# Altium footprint library UVICHyrbidLibrary (1).PcbLib: 116 footprints (part 3 of 8)
Each footprint in its own frame and in the unit in brackets; x right, y up, seen from the top. Pads: shape width x height; smd on the part's side, far side on the other; paste and mask are expansions set on the pad; w line width, h text height; cw(c..) or ccw(c..) is an arc to the next point about the centre after c.
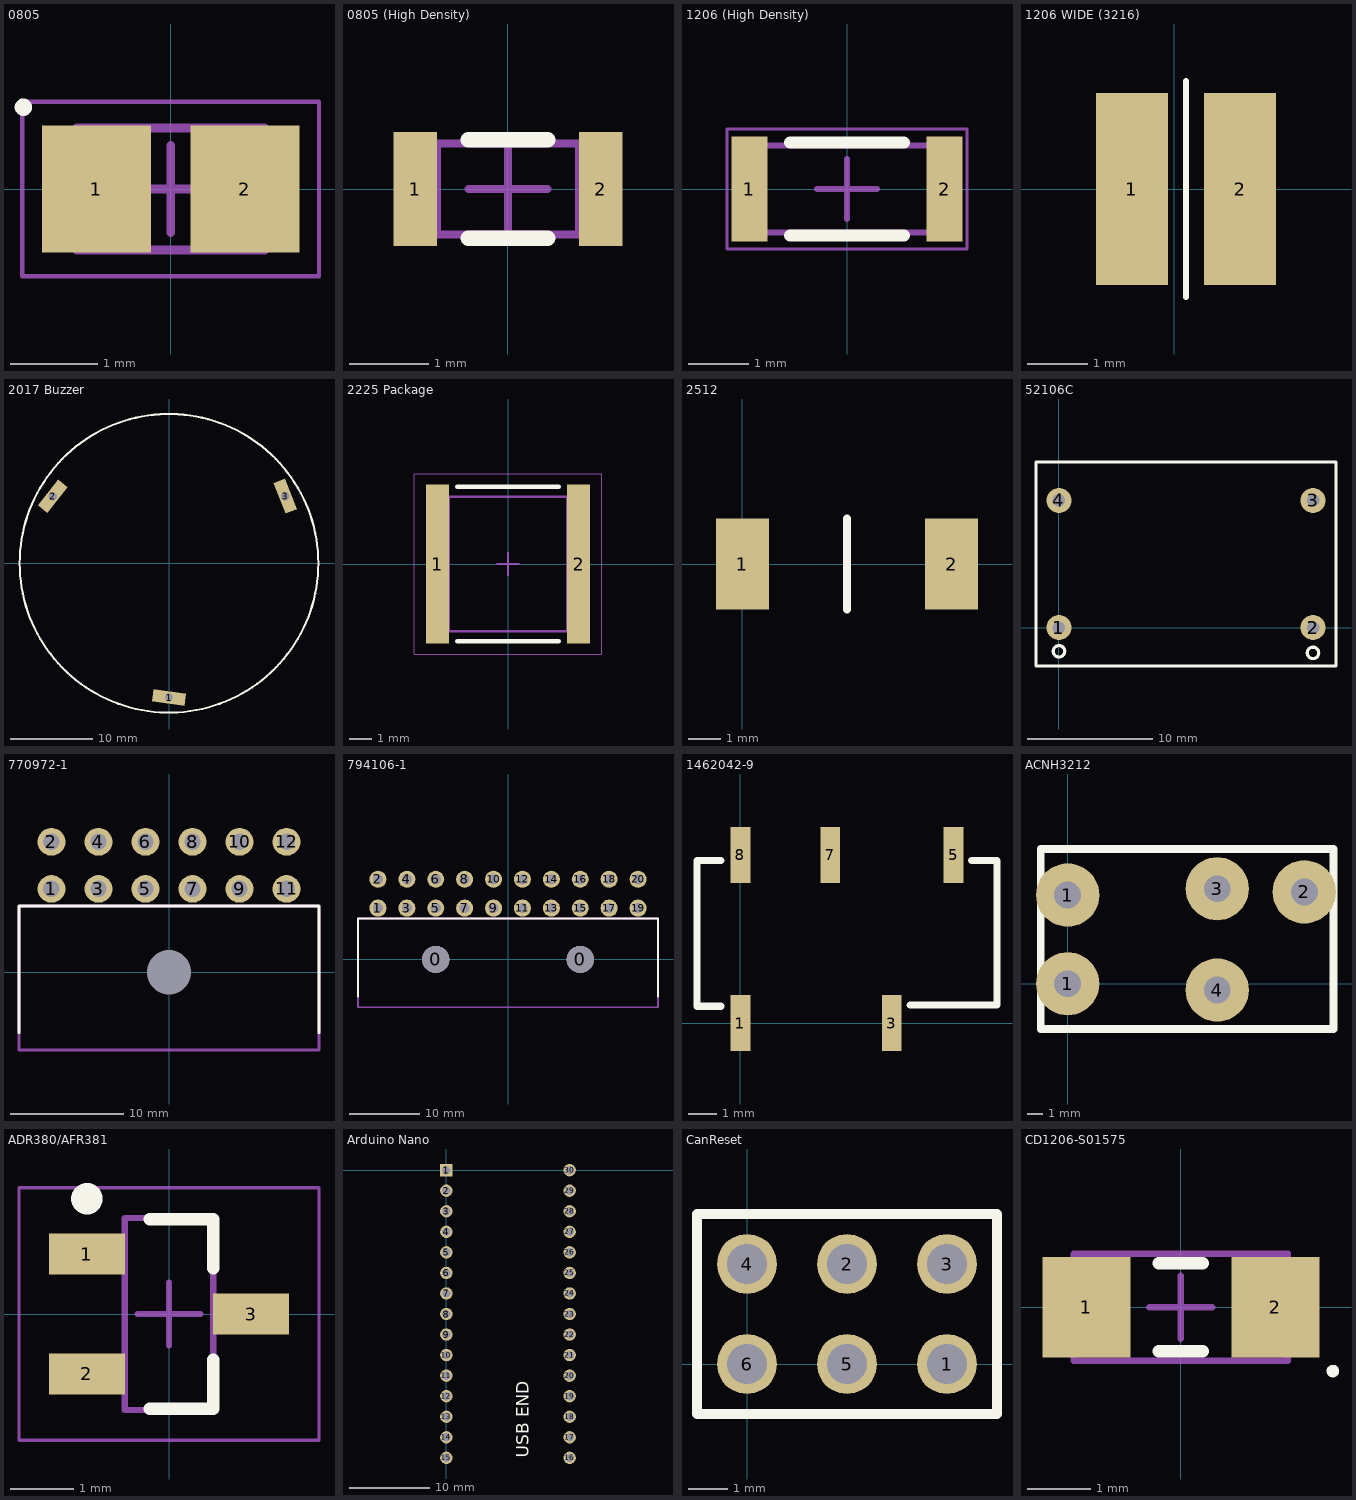
[diagram p2: the footprints below, top view; thin cyan lines are the x and y axes]

## 0805 [mm] "Chip Capacitor, 2-Leads, Body 2.00x1.25mm, IPC Medium Density"
height 1.4
pads (2):
  rect 1.25x1.45 smd: 1(-0.85,0) 2(0.85,0)
Top Overlay:
  circle w0.1: c-1.687,0.937 r0.05
Mechanical 13:
  lines w0.1: -1.075,-0.7 -1.075,0.7 1.075,0.7 1.075,-0.7 -1.075,-0.7
Mechanical 15:
  lines w0.05: -1.7,-1 -1.7,1 1.7,1 1.7,-1 -1.7,-1
  lines w0.1: -0.5,0 0.5,0 ; 0,-0.5 0,0.5
3D body: height 1.4, standoff 0, extent -0.625,-0.7 0.625,0.7
3D body: height 1.4, standoff 0, extent -1.075,-0.7 -0.625,0.7
3D body: height 1.4, standoff 0, extent 0.625,-0.7 1.075,0.7

## 0805 (High Density) [mm] "Panasonic 0805 Resistor"
height 0.7
pads (2):
  rect 0.55x1.45 smd: 1(-1.175,0) 2(1.175,0)
Top Overlay:
  lines w0.2: -0.5,-0.625 0.5,-0.625 ; -0.5,0.625 0.5,0.625
Mechanical 13:
  lines w0.1: -0.9,-0.575 -0.9,0.575 0.9,0.575 0.9,-0.575 -0.9,-0.575
Mechanical 15:
  lines w0.1: -0.5,0 0.5,0 ; 0,-0.5 0,0.5
3D body: height 0.7, standoff 0, extent -0.5,-0.575 0.5,0.575
3D body: height 0.7, standoff 0, extent -0.9,-0.575 -0.5,0.575
3D body: height 0.7, standoff 0, extent 0.5,-0.575 0.9,0.575

## 1206 (High Density) [mm] "Panasonic 1206 Resistor"
height 0.7
pads (2):
  rect 0.6x1.75 smd: 1(-1.625,0) 2(1.625,0)
Top Overlay:
  lines w0.2: -0.95,-0.775 0.95,-0.775 ; -0.95,0.775 0.95,0.775
Mechanical 13:
  lines w0.1: -1.5,-0.725 1.5,-0.725 1.5,0.725 -1.5,0.725 -1.5,-0.725
Mechanical 15:
  lines w0.05: -2,-1 2,-1 2,1 -2,1 -2,-1
  lines w0.1: -0.5,0 0.5,0 ; 0,-0.5 0,0.5
3D body: height 0.7, standoff 0, extent 1,-0.725 1.5,0.725
3D body: height 0.7, standoff 0, extent -1.5,-0.725 -1,0.725
3D body: height 0.7, standoff 0, extent -1,-0.725 1,0.725

## 1206 WIDE (3216) [mm]
pads (2):
  rect 1.2x3.2 smd: 1(-0.7,0) 2(1.1,0)
Top Overlay:
  lines w0.1: 0.2,-1.8 0.2,1.8

## 2017 Buzzer [mm]
pads (3):
  rect 4x1.5 hole 1 square rot 172: 1(0,-16.275)
  rect 4x1.5 hole 1 square rot 52: 2(-14.095,8.137)
  rect 4x1.5 hole 1 square rot 112: 3(14.095,8.137)
Top Overlay:
  circle w0.254: c0,0 r18.105

## 2225 Package [mm]
height 2.18
pads (2):
  rect 1.05x7.2 smd: 1(-3.2,0) 2(3.2,0)
Top Overlay:
  lines w0.2: -2.3,-3.5 2.3,-3.5 ; -2.3,3.5 2.3,3.5
Mechanical 13:
  lines w0.1: -2.67,-3.05 -2.67,3.05 2.67,3.05 2.67,-3.05 -2.67,-3.05
Mechanical 15:
  lines w0.05: -4.25,-4.1 -4.25,4.1 4.25,4.1 4.25,-4.1 -4.25,-4.1
  lines w0.1: -0.5,0 0.5,0 ; 0,-0.5 0,0.5
3D body: height 2.18, standoff 0, extent -2.16,-3.05 2.16,3.05
3D body: height 2.18, standoff 0, extent -2.67,-3.05 -2.16,3.05
3D body: height 2.18, standoff 0, extent 2.16,-3.05 2.67,3.05

## 2512 [mm]
pads (2):
  rect 1.65x2.85 smd: 1(0,0) 2(6.55,0)
Top Overlay:
  lines w0.254: 3.275,-1.425 3.275,1.425

## 52106C [mm] "MuRata 10mH Common Mode Choke"
pads (4):
  round 2 hole 1 unplated: 1(0,0) 2(20.32,0) 3(20.32,10.16) 4(0,10.16)
Top Overlay:
  circle w0.254: c20.32,-2.032 r0.458
  circle w0.254: c0,-1.905 r0.458
  lines w0.254: -1.84,-3.07 22.16,-3.07 22.16,13.23 -1.84,13.23 -1.84,-3.07

## 770972-1 [mm] "TE Connectivity 12-Pin Right Angle Mini-U MATE-N-LOK"
pads (13):
  round 0 hole 3.9 unplated: 0(0,0)
  round 2.45 hole 1.45: 1(-10.351,7.34) 2(-10.351,11.48) 3(-6.21,7.34) 4(-6.21,11.48) 5(-2.07,7.34) 6(-2.07,11.48) 7(2.07,7.34) 8(2.07,11.48) 9(6.21,7.34) 10(6.21,11.48) 11(10.351,7.34) 12(10.351,11.48)
Top Overlay:
  lines w0.254: -13.21,-5.33 -13.21,5.84 13.21,5.84 13.21,-5.33
Mechanical 1:
  lines w0.254: -13.21,-6.86 13.21,-6.86 13.21,5.84 -13.21,5.84 -13.21,-6.86
3D body: height 9.8, standoff 0.76, extent -13.21,-6.86 13.21,5.84

## 794106-1 [mm] "TE Connectivity 20pin RIgh Angle Mini-U MATE-N-LOK"
pads (22):
  round 3.9 hole 3.9 unplated: 0(-10.351,0) 0(10.351,0)
  round 2.45 hole 1.45: 1(-18.631,7.34) 2(-18.631,11.48) 3(-14.491,7.34) 4(-14.491,11.48) 5(-10.351,7.34) 6(-10.351,11.48) 7(-6.21,7.34) 8(-6.21,11.48) 9(-2.07,7.34) 10(-2.07,11.48) 11(2.07,7.34) 12(2.07,11.48) 13(6.21,7.34) 14(6.21,11.48) 15(10.351,7.34) 16(10.351,11.48) 17(14.491,7.34) 18(14.491,11.48) 19(18.631,7.34) 20(18.631,11.48)
Top Overlay:
  lines w0.254: -21.49,-5.33 -21.49,5.84 21.49,5.84 21.49,-5.33
Mechanical 1:
  lines w0.254: -21.49,-6.86 -21.49,5.84 21.49,5.84 21.49,-6.86 -21.49,-6.86
3D body: height 9.8, standoff 0.76, extent -21.49,-6.86 21.49,5.84

## 1462042-9 [mm] "Tyco SPDT 12V Signal Relay"
pads (5):
  rect 0.7x2 smd: 1(0,0) 3(5.4,0) 5(7.6,6) 7(3.2,6) 8(0,6)
Top Overlay:
  lines w0.254: -0.7,0.6 -1.55,0.6 -1.55,5.8 -0.7,5.8 ; 6.05,0.65 9.15,0.65 9.15,5.8 8.25,5.8

## ACNH3212 [mm] "Panasonic: 12V, 30A, SPST, Relay"
pads (6):
  round 0 on Top Paste paste+0.013 mask+0.013: 0(0.561,0.058)
  round 4 hole 1.7 unplated paste+0.5 mask+0.5: 1(0,0) 1(0,5.6) 2(14.95,5.8) 3(9.45,6) 4(9.45,-0.4)
Top Overlay:
  lines w0.5: -1.7,-2.85 16.8,-2.85 16.8,8.5 -1.7,8.5 -1.7,-2.85

## ADR380/AFR381 [mm] "Analog Devices Precision Low Drift 2.048V/2.5V Reference"
height 1.1
pads (3):
  rect 1.2x0.65 smd: 1(-1.3,0.95) 2(-1.3,-0.95) 3(1.3,0)
Top Overlay:
  circle w0.25: c-1.3,1.825 r0.125
  lines w0.2: -0.3,-1.5 0.7,-1.5 0.7,-0.725 ; -0.3,1.5 0.7,1.5 0.7,0.725
Mechanical 13:
  lines w0.1: -0.7,-1.52 0.7,-1.52 0.7,1.52 -0.7,1.52 -0.7,-1.52
Mechanical 15:
  lines w0.05: -2.375,-2 2.375,-2 2.375,2 -2.375,2 -2.375,-2
  lines w0.1: -0.5,0 0.5,0 ; 0,-0.5 0,0.5
3D body: height 1.1, standoff 0.01, extent -0.7,-1.52 0.7,1.52

## Arduino Nano [mil]
pads (30):
  rect 60x60 hole 40: 1(0,0)
  round 60 hole 40: 2(0,-100) 3(0,-200) 4(0,-300) 5(0,-400) 6(0,-500) 7(0,-600) 8(0,-700) 9(0,-800) 10(0,-900) 11(0,-1000) 12(0,-1100) 13(0,-1200) 14(0,-1300) 15(0,-1400) 16(600,-1400) 17(600,-1300) 18(600,-1200) 19(600,-1100) 20(600,-1000) 21(600,-900) 22(600,-800) 23(600,-700) 24(600,-600) 25(600,-500) 26(600,-400) 27(600,-300) 28(600,-200) 29(600,-100) 30(600,0)
Top Overlay:
  text "USB END" at 400,-1400 h60

## CanReset [mil]
pads (6):
  round 60 hole 40: 1(200,0) 2(100,100) 3(200,100) 4(0,100) 5(100,0) 6(0,0)
Top Overlay:
  lines w10: -50,-50 250,-50 250,150 -50,150 -50,-50

## CD1206-S01575 [mm] "Bourns Switching Chip Diode"
height 0.95
pads (2):
  rect 1.4x1.6 smd: 1(-1.5,0) 2(1.5,0)
Top Overlay:
  circle w0.1: c2.412,-1.012 r0.05
  lines w0.2: -0.35,-0.7 0.35,-0.7 ; -0.35,0.7 0.35,0.7
Mechanical 13:
  lines w0.1: -1.7,-0.85 1.7,-0.85 1.7,0.85 -1.7,0.85 -1.7,-0.85
Mechanical 15:
  lines w0.1: -0.5,0 0.5,0 ; 0,-0.5 0,0.5
3D body: height 0.95, standoff 0, extent 1.15,-0.85 1.7,0.85
3D body: height 0.95, standoff 0, extent -1.7,-0.85 -1.15,0.85
3D body: height 0.95, standoff 0, extent -1.15,-0.85 1.15,0.85